# Altium schematic symbol library pnp.SchLib: 1 symbol
Pins are listed as number, name and electrical type; pins without a type are passive.

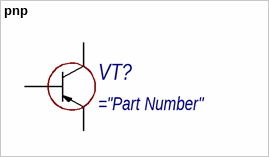
[diagram p0: symbol pnp]

## pnp
designator VT?
pins: 1, 2, 3